# Altium footprint library PCB - SWITCH - E-SWITCH 100SPxT2B4M7xE.PcbLib: 1 footprints
Each footprint in its own frame and in the unit in brackets; x right, y up, seen from the top. Pads: shape width x height; smd on the part's side, far side on the other; paste and mask are expansions set on the pad; w line width, h text height; cw(c..) or ccw(c..) is an arc to the next point about the centre after c.
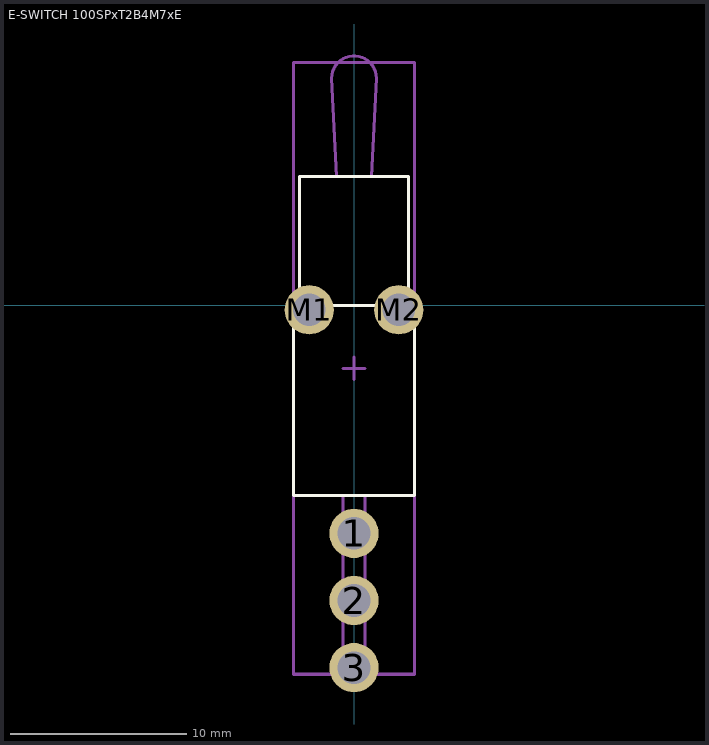
[diagram p0: the footprint, top view; thin cyan lines are the x and y axes]

## E-SWITCH 100SPxT2B4M7xE [mil]
pads (5):
  round 110 hole 73: 1(0,-510) 2(0,-660) 3(0,-810) M1(-100,-10) M2(100,-10)
Top Overlay:
  lines w7: -122,0 -122,288 122,288 122,0 ; -135,-425 -135,0 135,0 135,-425 -135,-425
Top Assembly:
  lines w7: -122,0 -122,288 122,288 122,0 ; -39.52,288.02 -50,508 cw(c0,508) 50,508 39.52,288.02 ; -25,-425 -25,-825 25,-825 25,-425 ; -135,-425 -135,0 135,0 135,-425 -135,-425
Top Courtyard:
  lines w7: -25,-141.08 25,-141.08 ; 0,-166.08 0,-116.08 ; -135.04,-825 135.04,-825 135.04,542.85 -135.04,542.85 -135.04,-825
3D body "E-Switch - 100SPxT2B4M7xE.stp": height 500, standoff -125.2, extent -135.04,-825 135.04,542.85